# EAGLE library part STM32F407VGT6 (library stm32)
STM32F407VGT6 100 pin LQFP
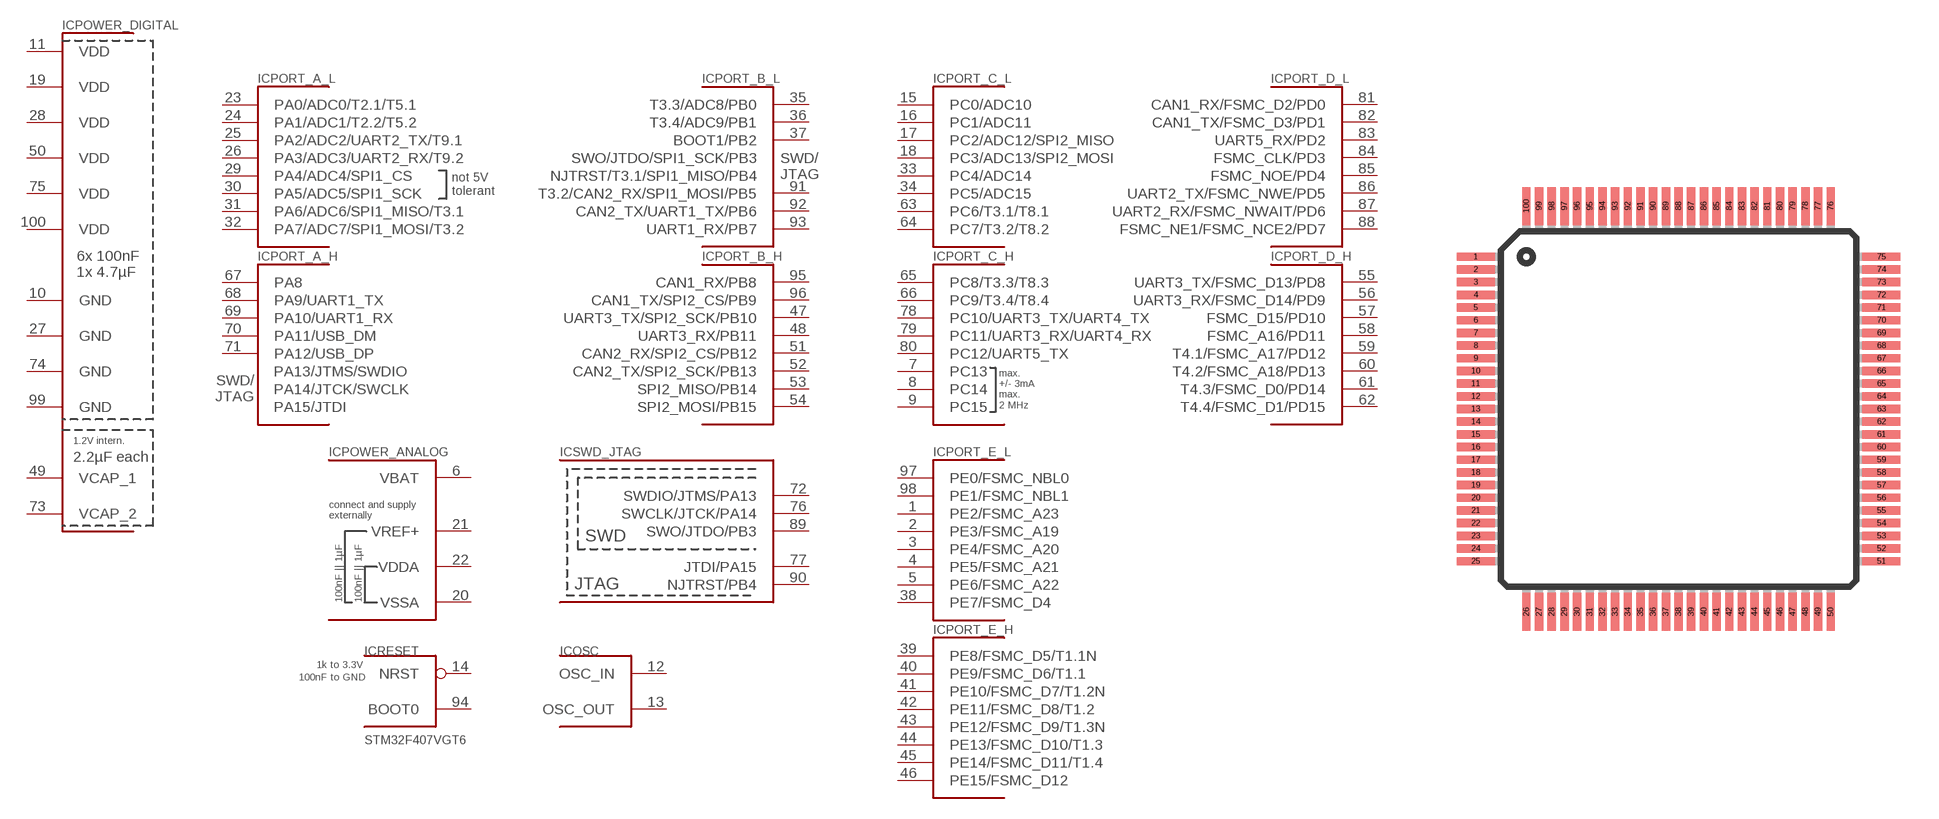
[diagram p7: symbol with the pads of TQFP100; footprint TQFP100]

Designator prefix IC; gates OSC=OSC RESET=BOOT_RST POWER_DIGITAL=STM32F407VGT6_POWER PORT_A_H=STM32F407_PORT_A_H PORT_B_L=STM32F407_PORT_B_L SWD_JTAG=STM32F407_SWD_JTAG PORT_A_L=STM32F407_PORT_A_L PORT_B_H=STM32F407_PORT_B_H PORT_C_L=STM32F407_PORT_C_L PORT_C_H=STM32F407_PORT_C_H PORT_D_L=STM32F407_PORT_D_L PORT_D_H=STM32F407_PORT_D_H PORT_E_L=STM32F407_PORT_E_L PORT_E_H=STM32F407_PORT_E_H POWER_ANALOG=STM32F407_POWER_ANALOG

## STM32F407VGT6  [TQFP100]
1  PORT_E_L:PE2/FSMC_A23
2  PORT_E_L:PE3/FSMC_A19
3  PORT_E_L:PE4/FSMC_A20
4  PORT_E_L:PE5/FSMC_A21
5  PORT_E_L:PE6/FSMC_A22
6  POWER_ANALOG:VBAT  pwr
7  PORT_C_H:PC13
8  PORT_C_H:PC14
9  PORT_C_H:PC15
10  POWER_DIGITAL:GND  pwr
11  POWER_DIGITAL:VDD  pwr
12  OSC:OSC_IN  in
13  OSC:OSC_OUT  out
14  RESET:NRST  in
15  PORT_C_L:PC0/ADC10
16  PORT_C_L:PC1/ADC11
17  PORT_C_L:PC2/ADC12/SPI2_MISO
18  PORT_C_L:PC3/ADC13/SPI2_MOSI
19  POWER_DIGITAL:VDD  pwr
20  POWER_ANALOG:VSSA  pwr
21  POWER_ANALOG:VREF+  in
22  POWER_ANALOG:VDDA  pwr
23  PORT_A_L:PA0/ADC0/T2.1/T5.1
24  PORT_A_L:PA1/ADC1/T2.2/T5.2
25  PORT_A_L:PA2/ADC2/UART2_TX/T9.1
26  PORT_A_L:PA3/ADC3/UART2_RX/T9.2
27  POWER_DIGITAL:GND  pwr
28  POWER_DIGITAL:VDD  pwr
29  PORT_A_L:PA4/ADC4/SPI1_CS
30  PORT_A_L:PA5/ADC5/SPI1_SCK
31  PORT_A_L:PA6/ADC6/SPI1_MISO/T3.1
32  PORT_A_L:PA7/ADC7/SPI1_MOSI/T3.2
33  PORT_C_L:PC4/ADC14
34  PORT_C_L:PC5/ADC15
35  PORT_B_L:T3.3/ADC8/PB0
36  PORT_B_L:T3.4/ADC9/PB1
37  PORT_B_L:BOOT1/PB2
38  PORT_E_L:PE7/FSMC_D4
39  PORT_E_H:PE8/FSMC_D5/T1.1N
40  PORT_E_H:PE9/FSMC_D6/T1.1
41  PORT_E_H:PE10/FSMC_D7/T1.2N
42  PORT_E_H:PE11/FSMC_D8/T1.2
43  PORT_E_H:PE12/FSMC_D9/T1.3N
44  PORT_E_H:PE13/FSMC_D10/T1.3
45  PORT_E_H:PE14/FSMC_D11/T1.4
46  PORT_E_H:PE15/FSMC_D12
47  PORT_B_H:UART3_TX/SPI2_SCK/PB10
48  PORT_B_H:UART3_RX/PB11
49  POWER_DIGITAL:VCAP_1  pas
50  POWER_DIGITAL:VDD  pwr
51  PORT_B_H:CAN2_RX/SPI2_CS/PB12
52  PORT_B_H:CAN2_TX/SPI2_SCK/PB13
53  PORT_B_H:SPI2_MISO/PB14
54  PORT_B_H:SPI2_MOSI/PB15
55  PORT_D_H:UART3_TX/FSMC_D13/PD8
56  PORT_D_H:UART3_RX/FSMC_D14/PD9
57  PORT_D_H:FSMC_D15/PD10
58  PORT_D_H:FSMC_A16/PD11
59  PORT_D_H:T4.1/FSMC_A17/PD12
60  PORT_D_H:T4.2/FSMC_A18/PD13
61  PORT_D_H:T4.3/FSMC_D0/PD14
62  PORT_D_H:T4.4/FSMC_D1/PD15
63  PORT_C_L:PC6/T3.1/T8.1
64  PORT_C_L:PC7/T3.2/T8.2
65  PORT_C_H:PC8/T3.3/T8.3
66  PORT_C_H:PC9/T3.4/T8.4
67  PORT_A_H:PA8
68  PORT_A_H:PA9/UART1_TX
69  PORT_A_H:PA10/UART1_RX
70  PORT_A_H:PA11/USB_DM
71  PORT_A_H:PA12/USB_DP
72  SWD_JTAG:SWDIO/JTMS/PA13
73  POWER_DIGITAL:VCAP_2  pas
74  POWER_DIGITAL:GND  pwr
75  POWER_DIGITAL:VDD  pwr
76  SWD_JTAG:SWCLK/JTCK/PA14
77  SWD_JTAG:JTDI/PA15
78  PORT_C_H:PC10/UART3_TX/UART4_TX
79  PORT_C_H:PC11/UART3_RX/UART4_RX
80  PORT_C_H:PC12/UART5_TX
81  PORT_D_L:CAN1_RX/FSMC_D2/PD0
82  PORT_D_L:CAN1_TX/FSMC_D3/PD1
83  PORT_D_L:UART5_RX/PD2
84  PORT_D_L:FSMC_CLK/PD3
85  PORT_D_L:FSMC_NOE/PD4
86  PORT_D_L:UART2_TX/FSMC_NWE/PD5
87  PORT_D_L:UART2_RX/FSMC_NWAIT/PD6
88  PORT_D_L:FSMC_NE1/FSMC_NCE2/PD7
89  SWD_JTAG:SWO/JTDO/PB3
90  SWD_JTAG:NJTRST/PB4
91  PORT_B_L:T3.2/CAN2_RX/SPI1_MOSI/PB5
92  PORT_B_L:CAN2_TX/UART1_TX/PB6
93  PORT_B_L:UART1_RX/PB7
94  RESET:BOOT0  in
95  PORT_B_H:CAN1_RX/PB8
96  PORT_B_H:CAN1_TX/SPI2_CS/PB9
97  PORT_E_L:PE0/FSMC_NBL0
98  PORT_E_L:PE1/FSMC_NBL1
99  POWER_DIGITAL:GND  pwr
100  POWER_DIGITAL:VDD  pwr

## Footprint TQFP100 (pad centres in mm)
smd 1.5 x 0.33: 1 -8,6; 2 -8,5.5; 3 -8,5; 4 -8,4.5; 5 -8,4; 6 -8,3.5; 7 -8,3; 8 -8,2.5; 9 -8,2; 10 -8,1.5; 11 -8,1; 12 -8,0.5; 13 -8,0; 14 -8,-0.5; 15 -8,-1; 16 -8,-1.5; 17 -8,-2; 18 -8,-2.5; 19 -8,-3; 20 -8,-3.5; 21 -8,-4; 22 -8,-4.5; 23 -8,-5; 24 -8,-5.5; 25 -8,-6; 51 8,-6; 52 8,-5.5; 53 8,-5; 54 8,-4.5; 55 8,-4; 56 8,-3.5; 57 8,-3; 58 8,-2.5; 59 8,-2; 60 8,-1.5; 61 8,-1; 62 8,-0.5; 63 8,0; 64 8,0.5; 65 8,1; 66 8,1.5; 67 8,2; 68 8,2.5; 69 8,3; 70 8,3.5; 71 8,4; 72 8,4.5; 73 8,5; 74 8,5.5; 75 8,6
smd 0.33 x 1.5: 26 -6,-8; 27 -5.5,-8; 28 -5,-8; 29 -4.5,-8; 30 -4,-8; 31 -3.5,-8; 32 -3,-8; 33 -2.5,-8; 34 -2,-8; 35 -1.5,-8; 36 -1,-8; 37 -0.5,-8; 38 0,-8; 39 0.5,-8; 40 1,-8; 41 1.5,-8; 42 2,-8; 43 2.5,-8; 44 3,-8; 45 3.5,-8; 46 4,-8; 47 4.5,-8; 48 5,-8; 49 5.5,-8; 50 6,-8; 76 6,8; 77 5.5,8; 78 5,8; 79 4.5,8; 80 4,8; 81 3.5,8; 82 3,8; 83 2.5,8; 84 2,8; 85 1.5,8; 86 1,8; 87 0.5,8; 88 0,8; 89 -0.5,8; 90 -1,8; 91 -1.5,8; 92 -2,8; 93 -2.5,8; 94 -3,8; 95 -3.5,8; 96 -4,8; 97 -4.5,8; 98 -5,8; 99 -5.5,8; 100 -6,8